# EAGLE library part ESP-WROOM-02 (library ESP-WROOM-02)
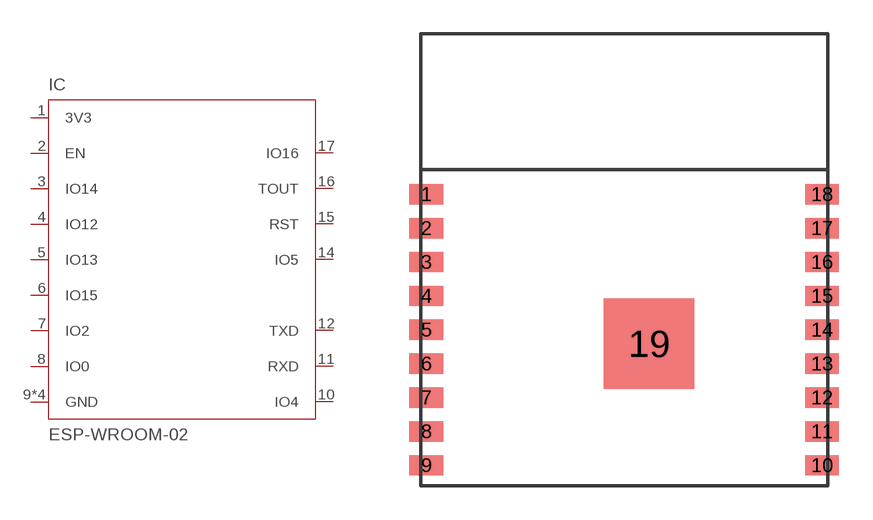
[diagram p0: symbol with the pads of ESP-WROOM-02D; footprint ESP-WROOM-02D]

Designator prefix IC

## ESP-WROOM-02D  [ESP-WROOM-02D]
1  3V3
2  EN
3  IO14
4  IO12
5  IO13
6  IO15
7  IO2
8  IO0
9  GND
10  IO4
11  RXD
12  TXD
13  GND
14  IO5
15  RST
16  TOUT
17  IO16
18  GND
19  GND

## Footprint ESP-WROOM-02D (pad centres in mm)
Recommended PCB Land Pattern Datasheet <https://www.espressif.com/sites/default/files/documentation/esp-wroom-02u_esp-wroom-02d_datasheet_en.pdf>
smd 1.5 x 0.9: 1 0.25,12.9; 2 0.25,11.4; 3 0.25,9.9; 4 0.25,8.4; 5 0.25,6.9; 6 0.25,5.4; 7 0.25,3.9; 8 0.25,2.4; 9 0.25,0.9; 10 17.75,0.9; 11 17.75,2.4; 12 17.75,3.9; 13 17.75,5.4; 14 17.75,6.9; 15 17.75,8.4; 16 17.75,9.9; 17 17.75,11.4; 18 17.75,12.9
smd 4 x 4: 19 10.1,6.29